# Altium schematic symbol library BoardC.SchLib: 8 symbols
Pins are listed as number, name and electrical type; pins without a type are passive.

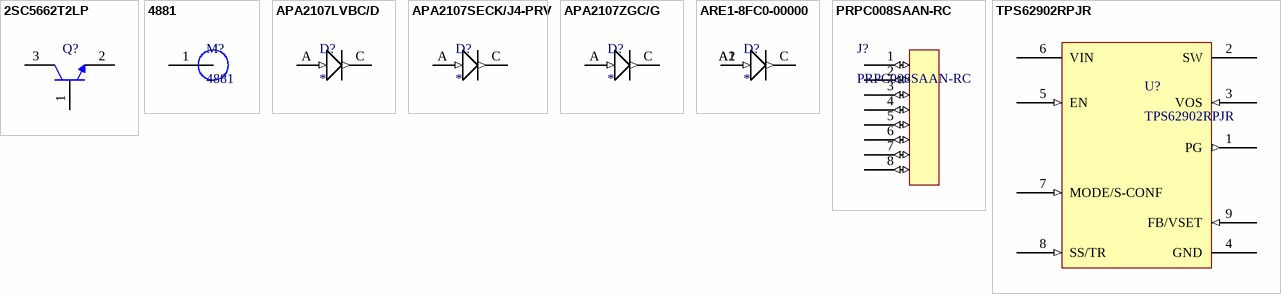
[diagram p0: symbols 2SC5662T2LP to TPS62902RPJR]

## 2SC5662T2LP
designator Q?  (value not drawn)
Trans GP BJT NPN 11V 0.05A 3-Pin VMT T/R; Manufacturer: Rohm; Max Power Dissipation: 150mW; Collector Base Voltage (VCBO): 20V; Max Collector Current: 50mA; hFE Min: 56; Emitter Base Voltage (VEBO): 3V; Collector Emitter Saturation Voltage: 500mV; Transition Frequency: 3.2GHz; Element Configuration: Single; Supplier 1: Digi-Key; RoHS: Yes; Stock 1: 907338; Pricing 1: 1=0.41000, 10=0.33400, 25=0.30520, 100=0.22730, 500=0.17044, 1000=0.12784, 2500=0.11718 (USD); Mount: Surface Mount; Case/Package: SOT-723; Number of Pins: 3; Contact Plating: Copper,Tin; Min Operating Temperature: -55°C; Max Operating Temperature: 150°C; Collector Emitter Voltage (VCEO): 11V; Packaging: Tape and Reel; Package Quantity: 1; Polarity: NPN; Continuous Collector Current: 50mA; Collector Emitter Breakdown Voltage: 11V; Max Breakdown Voltage: 11V; Termination: SMD/SMT; Gain Bandwidth Product: 3.2GHz; Voltage Rating (DC): 11V; Power Dissipation: 150mW; Current Rating: 50mA; Collector-emitter Voltage-Max: 500mV; Series: -; Radiation Hardening: No; REACH SVHC: No SVHC; Lead Free: Lead Free; RoHS Compliant: Yes; ComponentLink1URL: https://datasheet.ciiva.com/16289/2sc4726-210299-16289169.pdf?src-supplier=Mouser; ComponentLink1Description: https://datasheet.ciiva.com/16289/2sc4726-210299-16289169.pdf?src-supplier=Mouser; ComponentLink2URL: https://datasheet.ciiva.com/1194/1645349-1194869.pdf?src-supplier=Element14; ComponentLink2Description: https://datasheet.ciiva.com/1194/1645349-1194869.pdf?src-supplier=Element14; ComponentLink3URL: https://datasheet.ciiva.com/6361/2sc4726-6361817.pdf?src-supplier=Digi-Key; ComponentLink3Description: https://datasheet.ciiva.com/6361/2sc4726-6361817.pdf?src-supplier=Digi-Key; ComponentLink4URL: https://datasheet.ciiva.com/6361/2sc4726-6361818.pdf?src-supplier=Digi-Key; ComponentLink4Description: https://datasheet.ciiva.com/6361/2sc4726-6361818.pdf?src-supplier=Digi-Key; ComponentLink5URL: https://datasheet.ciiva.com/6361/2sc4726-6361823.pdf?src-supplier=Digi-Key; ComponentLink5Description: https://datasheet.ciiva.com/6361/2sc4726-6361823.pdf?src-supplier=Digi-Key; ComponentLink6URL: https://datasheet.ciiva.com/22695/1645349-22695317.pdf?src-supplier=Element14; ComponentLink6Description: https://datasheet.ciiva.com/22695/1645349-22695317.pdf?src-supplier=Element14; Category: BJTs; Manufacturer Part Number: 2SC5662T2LP; Supplier Part Number 1: 2SC5662T2LPCT-ND
footprint 2SC5662T2LP (SOT143, 4-Leads, Body 2.92x2.37mm, Pitch 1.90mm, IPC Medium Density)
pins: 1, 2, 3

## 4881
designator M?
ROUND STANDOFF #4-40 STEEL 1/16"; Manufacturer: Keystone Electronics; Plating: Tin; Threaded/Unthreaded: Threaded; Supplier 1: Mouser; RoHS: No; Stock 1: 14424; Pricing 1: 1=0.37000, 10=0.34100, 50=0.27300, 100=0.26200, 1000=0.18200, 10000=0.15600 (USD); Material: Steel; ComponentLink1URL: http://www.keyelco.com/product-pdf.cfm?p=14249&src-supplier=Digi-Key; ComponentLink1Description: http://www.keyelco.com/product-pdf.cfm?p=14249&src-supplier=Digi-Key; Supplier Part Number 1: 534-4881; Manufacturer Part Number: 4881; Category: Spacers, Standoffs
footprint 4881
pins: 1

## APA2107LVBC/D
designator D?
LED BLUE CLEAR 2SMD R/A; Manufacturer Part Number: APA2107LVBC/D; Manufacturer: Kingbright; Lens Color: Colorless; Luminous Intensity: 20mcd; Test Current: 2mA; Viewing Angle: 120°; Dominant Wavelength: 470nm; Forward Voltage: 2.65V; Supplier 1: Digi-Key; RoHS: Yes; Stock 1: 37613; Pricing 1: 1=0.55000, 10=0.35800, 100=0.23700, 1000=0.18300 (USD); Mount: Surface Mount; Case/Package: SMD/SMT; Number of Pins: 2; Color: Blue; Packaging: Tape and Reel; Lens Transparency: Clear; Length: 2.1mm; Width: 1mm; Height: 0.6mm; Lead Free: Lead Free; RoHS Compliant: Yes; ComponentLink1URL: http://www.mouser.com/ds/2/216/APA2107LVBC-D-535568.pdf?src-supplier=Mouser; ComponentLink1Description: http://www.mouser.com/ds/2/216/APA2107LVBC-D-535568.pdf?src-supplier=Mouser; ComponentLink2URL: http://www.kingbrightusa.com/images/catalog/SPEC/APA2107LVBC-D.pdf?src-supplier=Digi-Key; ComponentLink2Description: http://www.kingbrightusa.com/images/catalog/SPEC/APA2107LVBC-D.pdf?src-supplier=Digi-Key; Category: LEDs; Supplier Part Number 1: 754-1923-1-ND
footprint APA2107
pins: A (in), C (out)

## APA2107SECK/J4-PRV
designator D?
LED ORANGE CLEAR SMD R/A; Manufacturer Part Number: APA2107SECK/J4-PRV; Manufacturer: Kingbright; Lens Color: Colorless; Lens Style: Domed; Luminous Intensity: 1900mcd; Forward Voltage: 2.2V; Test Current: 20mA; Viewing Angle: 120°; Dominant Wavelength: 605nm; Lens Size: 0.6mm; Supplier 1: Digi-Key; RoHS: Yes; Stock 1: 189603; Pricing 1: 1=0.50000, 10=0.30500, 100=0.17550, 1000=0.13738 (USD); Mount: Surface Mount; Case/Package: SMD/SMT; Color: Orange; Packaging: Tape and Reel; Lens Transparency: Clear; Length: 2.1mm; Width: 1mm; Height: 0.7mm; RoHS Compliant: Yes; ComponentLink1URL: http://www.kingbrightusa.com/images/catalog/SPEC/APA2107SECK-J4-PRV.pdf?src-supplier=Digi-Key; ComponentLink1Description: http://www.kingbrightusa.com/images/catalog/SPEC/APA2107SECK-J4-PRV.pdf?src-supplier=Digi-Key; Category: LEDs; Supplier Part Number 1: 754-2098-1-ND
footprint APA2107
pins: A (in), C (out)

## APA2107ZGC/G
designator D?
LED GREEN CLEAR SMD R/A; Manufacturer Part Number: APA2107ZGC/G; Manufacturer: Kingbright; Lens Color: Colorless; Lens Style: Domed; Luminous Intensity: 650mcd; Forward Voltage: 3.2V; Test Current: 20mA; Viewing Angle: 120°; Dominant Wavelength: 525nm; Lens Size: 0.6mm; Supplier 1: Digi-Key; RoHS: Yes; Stock 1: 13788; Pricing 1: 1=1.10000, 10=0.71900, 100=0.47130, 1000=0.37206 (USD); Mount: Surface Mount; Case/Package: SMD/SMT; Color: Green; Packaging: Cut Tape; Lens Transparency: Clear; Length: 2.1mm; Width: 1mm; Height: 0.7mm; RoHS Compliant: Yes; ComponentLink1URL: http://www.kingbrightusa.com/images/catalog/SPEC/APA2107ZGC-G.pdf?src-supplier=Digi-Key; ComponentLink1Description: http://www.kingbrightusa.com/images/catalog/SPEC/APA2107ZGC-G.pdf?src-supplier=Digi-Key; Category: LEDs; Supplier Part Number 1: 754-2103-1-ND
footprint APA2107
pins: A (in), C (out)

## ARE1-8FC0-00000
designator D?
Manufacturer Part Number: ARE1-8FC0-00000; Manufacturer: Broadcom; Supplier 1: Digi-Key; RoHS: Yes; Stock 1: 2337; Pricing 1: 1=3.81000, 10=2.69300, 100=2.20610 (USD); Mount: Surface Mount; Case/Package: SMD/SMT; Packaging: Tape and Reel; Supplier Part Number 1: 516-4309-1-ND
footprint ARE1-8FC0-00000
pins: A1 (in), A2 (in), C (out)

## PRPC008SAAN-RC
designator J?
CONN HEADER .100" SNGL STR 8POS; Manufacturer: Sullins; Number of Positions: 8; Connector Type: Male Pin; Pitch: 0.1inch; Supplier 1: Digi-Key; RoHS: Yes; Stock 1: 8185; Pricing 1: 1=0.25000, 10=0.23200, 25=0.19800, 50=0.17340, 100=0.16100, 250=0.14240, 500=0.13622 (USD); Mount: Through Hole; Color: Black; Contact Plating: Gold; Package Quantity: 1; Number of Rows: 1; Packaging: Bulk; Termination: Solder; Series: -; Contact Type: Male Pin; Contact Mating Length: 0.23inch; Lead Free: Lead Free; RoHS Compliant: Yes; ComponentLink1URL: https://datasheet.ciiva.com/741/xrxczzzsxxn-rc-st-11635-b-741237.pdf?src-supplier=Digi-Key; ComponentLink1Description: https://datasheet.ciiva.com/741/xrxczzzsxxn-rc-st-11635-b-741237.pdf?src-supplier=Digi-Key; Supplier 2: Digi-Key; Stock 2: 7551; Pricing 2: 1=0.25000, 10=0.23200, 25=0.19800, 50=0.17340, 100=0.16100, 250=0.14240, 500=0.13622 (USD); Category: Connectors; Manufacturer Part Number: PRPC008SAAN-RC; Supplier Part Number 2: S1011EC-08-ND
footprint PRPC008SAAN-RC
pins: 1 (io), 2 (io), 3 (io), 4 (io), 5 (io), 6 (io), 7 (io), 8 (io)

## TPS62902RPJR
designator U?
Manufacturer: Texas Instruments; Supplier 1: Digi-Key; RoHS: Yes; Stock 1: 7457; Pricing 1: 1=1.81000, 10=1.62400, 25=1.53160, 100=1.30500, 250=1.22536, 500=1.07220, 1000=0.96526 (USD); Supplier Part Number 1: 296-TPS62902RPJRCT-ND; Manufacturer Part Number: TPS62902RPJR
footprint TPS62902RPJR
pins: 1 PG (out), 2 SW (power), 3 VOS (in), 4 GND (power), 5 EN (in), 6 VIN (power), 7 MODE/S-CONF (in), 8 SS/TR (in), 9 FB/VSET (in)